# Altium schematic symbol library BLM18HE152SN1D.SchLib: 1 symbol
Pins are listed as number, name and electrical type; pins without a type are passive.

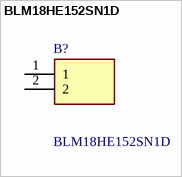
[diagram p0: symbol BLM18HE152SN1D]

## BLM18HE152SN1D
designator B?
Ferrite Beads 0603 1500ohms; Manufacturer_Name: Murata Electronics; Geometry.Height: 0.95mm; Mouser Part Number: 81-BLM18HE152SN1D; Mouser Price/Stock: https://www.mouser.co.uk/ProductDetail/Murata-Electronics/BLM18HE152SN1D?qs=vNc2DXHODiLhczkT1FKS1Q%3D%3D; Manufacturer_Part_Number: BLM18HE152SN1D; Datasheet Link: http://www.murata.com/~/media/webrenewal/support/library/catalog/products/emc/emifil/c31e.ashx?la=en-gb
footprint BLM18SP221SN1B
pins: 1, 2